# Altium footprint library voltage-converters.PcbLib: 1 footprints
Each footprint in its own frame and in the unit in brackets; x right, y up, seen from the top. Pads: shape width x height; smd on the part's side, far side on the other; paste and mask are expansions set on the pad; w line width, h text height; cw(c..) or ccw(c..) is an arc to the next point about the centre after c.
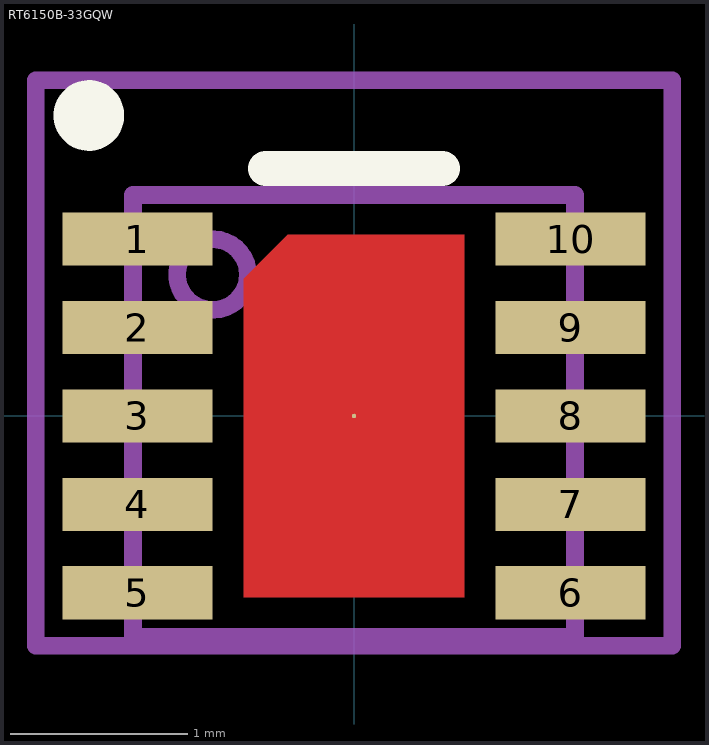
[diagram p0: the footprint, top view; thin cyan lines are the x and y axes]

## RT6150B-33GQW [mm] "WDFN-10L 2.5x2.5"
height 0.8
pads (11):
  round 0.025 smd paste-2539.97: 0(0,0)
  rect 0.85x0.3 smd: 1(-1.225,1) 2(-1.225,0.5) 3(-1.225,0) 4(-1.225,-0.5) 5(-1.225,-1) 6(1.225,-1) 7(1.225,-0.5) 8(1.225,0) 9(1.225,0.5) 10(1.225,1)
Top Layer:
  region: -0.375,1.025 0.625,1.025 0.625,-1.025 -0.625,-1.025 -0.625,0.775
Top Overlay:
  circle w0.2: c-1.5,1.7 r0.1
  lines w0.2: -0.5,1.4 0.5,1.4
Top Paste:
  rectangle: -0.4,-0.6 0.4,0.6
Top Assembly:
  circle w0.1: c-0.8,0.8 r0.2
  lines w0.1: -1.25,-1.25 1.25,-1.25 1.25,1.25 -1.25,1.25 -1.25,-1.25
Top Component Center:
  lines w0.1: -0.5,0 0.5,0 ; 0,-0.5 0,0.5
Top Component Outline:
  lines w0.1: -1.25,-1.25 1.25,-1.25 1.25,1.25 -1.25,1.25 -1.25,-1.25
Top Courtyard:
  lines w0.1: -1.8,-1.3 1.8,-1.3 1.8,1.9 -1.8,1.9 -1.8,-1.3
Top Designator:
  text "''.Designator''" at 0,0 h2.5
Top Value:
  text "''.Comment''" at 0,0 h2.5
3D body "RT6150B-33GQW.STEP": height 0.8, standoff 0, extent -1.25,-1.25 1.25,1.25